# Altium integrated library Altium_Antenna.IntLib: 26 symbols
Pins are listed as number, name and electrical type; pins without a type are passive.

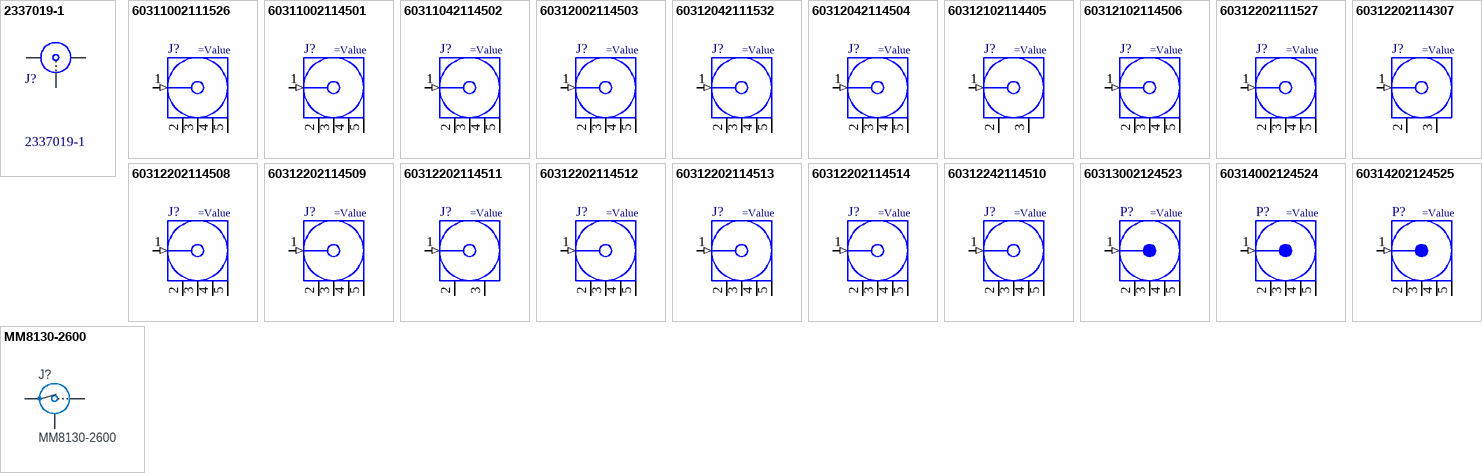
[diagram p0: symbols 2337019-1 to MM8130-2600]

## 2337019-1
designator J?
RF Connectors / Coaxial Connectors MicroCoax receptacle UMCC Gen 1; Manufacturer: TE Connectivity; Component Status: Active; Frequency Range: DC~6GHz; Impedance: 50Ohm; Gender: Jack; Orientation Type: Straight; Manufacturer Part Number: 2337019-1; Value: 2337019-1; ComponentLink1URL: https://www.te.com/commerce/DocumentDelivery/DDEController?Action=srchrtrv&DocNm=C-2337019&DocType=Customer+Drawing&DocLang=English&PartCntxt=2337019-1&DocFormat=pdf; ComponentLink1Description: Datasheet; Supplier 1: Mouser; Supplier 2: Digi-Key; Component Class: Connectors; Supplier 1 URL: https://www.mouser.com/ProductDetail/TE-Connectivity/2337019-1?qs=l4Gc20tDgJIuN7nS9rJkJw%3D%3D; Supplier 2 URL: https://www.digikey.com/en/products/detail/te-connectivity-amp-connectors/2337019-1/9974052; Center Contact Diameter: N/A; Connector Type: N/A; Interface: N/A; Packaging: Tray; LCSC Part #: C434807; Mount: SMD/SMT; Operating Temperature Max: + 85 C; Operating Temperature Min: - 40 C; Supplier 1 Part Number: 571-2337019-1; Supplier 2 Part Number: A144746TR-ND; Supplier 3: thegioiic; Supplier 3 Part Number: N/A; Supplier 3 URL: N/A
footprint 2337019-1
pins: 1 IN, 2 Shield, 3 Shield

## 60311002111526
designator J?
WR-SMA Connector, PCB THT Jack, Right Angle; Manufacturer Part Number: 60311002111526; Manufacturer: Wurth Elektronik; Impedance: 50Ohm; Connector Type: SMA; Frequency Range: DC~6GHz; Interface: MIL-STD-348; Center Contact Diameter: 1.27mm; Component Status: Active; ComponentLink1Description: Datasheet; ComponentLink1URL: https://www.we-online.com/catalog/datasheet/60311002111526.pdf; Gender: Jack; Packaging: Tray; Orientation Type: Right Angle; Component Class: Connectors; Supplier 1: Mouser; Supplier 2: Digi-Key; Supplier 1 URL: N/A; Supplier 2 URL: N/A; LCSC Part #: N/A; Mount: THT; Operating Temperature Max: + 85 C; Operating Temperature Min: - 40 C; Supplier 1 Part Number: N/A; Supplier 2 Part Number: N/A; Supplier 3: thegioiic; Supplier 3 Part Number: N/A; Supplier 3 URL: N/A
footprint 60311002111526
pins: 1 Signal (in) "Signal Pin", 2 GND (power), 3 GND (power), 4 GND (power), 5 GND (power)

## 60311002114501
designator J?
WR-SMA Connector, PCB THT Jack, Right Angle, with Anti-Torque Thread; Manufacturer Part Number: 60311002114501; Manufacturer: Wurth Elektronik; Impedance: 50Ohm; Connector Type: SMA; Frequency Range: DC~18GHz; Interface: MIL-STD-348; Center Contact Diameter: 1.27mm; Component Status: Active; ComponentLink1Description: Datasheet; ComponentLink1URL: https://www.we-online.com/catalog/datasheet/60311002114501.pdf; Gender: Jack; Packaging: Tray; Orientation Type: Right Angle; Component Class: Connectors; Supplier 1: Mouser; Supplier 1 URL: https://www.mouser.vn/ProductDetail/Wurth-Elektronik/60311002114501?qs=3jNSNtuqJTKCM9Xl9ihRQg%3D%3D; Supplier 2: Digi-Key; Supplier 2 URL: https://www.digikey.com/en/products/detail/johanson-technology-inc/2450ad18a6050002e/16034408; LCSC Part #: N/A; Mount: THT; Operating Temperature Max: + 85 C; Operating Temperature Min: - 40 C; Supplier 1 Part Number: 710-60311002114501; Supplier 2 Part Number: 732-13833-ND; Supplier 3: thegioiic; Supplier 3 Part Number: N/A; Supplier 3 URL: N/A
footprint 60311002114501
pins: 1 Signal (in) "Signal Pin", 2 GND (power), 3 GND (power), 4 GND (power), 5 GND (power)

## 60311042114502
designator J?
WR-SMA Connector, PCB THT Jack, Right Angle, Rear Mount Bulkhead; Manufacturer Part Number: 60311042114502; Manufacturer: Wurth Elektronik; Impedance: 50Ohm; Connector Type: SMA; Frequency Range: DC~12.4GHz; Interface: MIL-STD-348; Center Contact Diameter: 1.27mm; Component Status: Active; ComponentLink1Description: Datasheet; ComponentLink1URL: https://www.we-online.com/catalog/datasheet/60311042114502.pdf; Gender: Jack; Packaging: Tray; Orientation Type: Right Angle; Component Class: Connectors; Supplier 1: Mouser; Supplier 1 URL: https://www.mouser.vn/ProductDetail/Wurth-Elektronik/60311042114502?qs=3jNSNtuqJTKkU1QzLc%2FggQ%3D%3D; Supplier 2: Digi-Key; Supplier 2 URL: https://www.digikey.com/en/products/detail/w%C3%BCrth-elektronik/60311042114502/10106988; LCSC Part #: N/A; Mount: THT; Operating Temperature Max: + 85 C; Operating Temperature Min: - 40 C; Supplier 1 Part Number: 710-60311042114502; Supplier 2 Part Number: 732-13834-ND; Supplier 3: thegioiic; Supplier 3 Part Number: N/A; Supplier 3 URL: N/A
footprint 60311042114502
pins: 1 Signal (in) "Signal Pin", 2 GND (power), 3 GND (power), 4 GND (power), 5 GND (power)

## 60312002114503
designator J?
WR-SMA Connector, PCB THT Jack, Straight; Manufacturer Part Number: 60312002114503; Manufacturer: Wurth Elektronik; Impedance: 50Ohm; Connector Type: SMA; Frequency Range: DC~18GHz; Interface: MIL-STD-348; Center Contact Diameter: 1.27mm; Component Status: Active; ComponentLink1Description: Datasheet; ComponentLink1URL: https://www.we-online.com/catalog/datasheet/60312002114503.pdf; Gender: Jack; Packaging: Tray; Orientation Type: Straight; Component Class: Connectors; Supplier 1: Mouser; Supplier 1 URL: https://www.mouser.vn/ProductDetail/Wurth-Elektronik/60312002114503?qs=3jNSNtuqJTL%2FGpZA1FAOxw%3D%3D; Supplier 2: Digi-Key; Supplier 2 URL: https://www.digikey.com/en/products/detail/w%C3%BCrth-elektronik/60312002114503/10106989; LCSC Part #: N/A; Mount: THT; Operating Temperature Max: + 85 C; Operating Temperature Min: - 40 C; Supplier 1 Part Number: 710-60312002114503; Supplier 2 Part Number: 732-13835-ND; Supplier 3: thegioiic; Supplier 3 Part Number: N/A; Supplier 3 URL: N/A
footprint 60312002114503
pins: 1 Signal (in) "Signal Pin", 2 GND (power), 3 GND (power), 4 GND (power), 5 GND (power)

## 60312042111532
designator J?
WR-SMA Connector, PCB THT Jack, Straight, Rear Mount Bulkhead 11mm; Manufacturer Part Number: 60312042111532; Manufacturer: Wurth Elektronik; Impedance: 50Ohm; Connector Type: SMA; Frequency Range: DC~6GHz; Interface: MIL-STD-348; Center Contact Diameter: 1.27mm; Component Status: Active; ComponentLink1Description: Datasheet; ComponentLink1URL: https://www.we-online.com/catalog/datasheet/60312042111532.pdf; Gender: Jack; Packaging: Tray; Orientation Type: Straight; Component Class: Connectors; Supplier 1: Mouser; Supplier 1 URL: https://www.mouser.vn/ProductDetail/Wurth-Elektronik/60312042111532?qs=sPbYRqrBIVm%2Fn3Wj9RlOYA%3D%3D; Supplier 2: Digi-Key; Supplier 2 URL: https://www.digikey.com/en/products/detail/w%C3%BCrth-elektronik/60312042111532/12726543; LCSC Part #: N/A; Mount: THT; Operating Temperature Max: + 85 C; Operating Temperature Min: - 40 C; Supplier 1 Part Number: 710-60312042111532; Supplier 2 Part Number: 732-60312042111532-ND; Supplier 3: thegioiic; Supplier 3 Part Number: N/A; Supplier 3 URL: N/A
footprint 60312042111532 (Footprint not found)
pins: 1 Signal (in) "Signal Pin", 2 GND (power), 3 GND (power), 4 GND (power), 5 GND (power)

## 60312042114504
designator J?
WR-SMA Connector, PCB THT Jack, Straight, Rear Mount Bulkhead; Manufacturer Part Number: 60312042114504; Manufacturer: Wurth Elektronik; Impedance: 50Ohm; Connector Type: SMA; Frequency Range: DC~18GHz; Interface: MIL-STD-348; Center Contact Diameter: 1.27mm; Component Status: Active; ComponentLink1Description: Datasheet; ComponentLink1URL: https://www.we-online.com/catalog/datasheet/60312042114504.pdf; Gender: Jack; Packaging: Tray; Orientation Type: Straight; Component Class: Connectors; Supplier 1: Mouser; Supplier 1 URL: https://www.mouser.vn/ProductDetail/Wurth-Elektronik/60312042114504?qs=3jNSNtuqJTJQUrgN5kAX4g%3D%3D; Supplier 2: Digi-Key; Supplier 2 URL: https://www.digikey.com/en/products/detail/w%C3%BCrth-elektronik/60312042114504/10106990; LCSC Part #: N/A; Mount: THT; Operating Temperature Max: + 85 C; Operating Temperature Min: - 40 C; Supplier 1 Part Number: 710-60312042114504; Supplier 2 Part Number: 732-13836-ND; Supplier 3: thegioiic; Supplier 3 Part Number: N/A; Supplier 3 URL: N/A
footprint 60312042114504
pins: 1 Signal (in) "Signal Pin", 2 GND (power), 3 GND (power), 4 GND (power), 5 GND (power)

## 60312102114405
designator J?
WR-SMA Connector, PCB SMT Jack, Straight; Manufacturer Part Number: 60312102114405; Manufacturer: Wurth Elektronik; Impedance: 50Ohm; Connector Type: SMA; Frequency Range: DC~18GHz; Interface: MIL-STD-348; Center Contact Diameter: 1.27mm; Component Status: Active; ComponentLink1Description: Datasheet; ComponentLink1URL: https://www.we-online.com/catalog/datasheet/60312102114405.pdf; Gender: Jack; Packaging: Tape and Reel; Orientation Type: Straight; Component Class: Connectors; Supplier 1: Mouser; Supplier 1 URL: https://www.mouser.vn/ProductDetail/Wurth-Elektronik/60312102114405?qs=3jNSNtuqJTIiYSFyz6jY1Q%3D%3D; Supplier 2: Digi-Key; Supplier 2 URL: https://www.digikey.com/en/products/detail/w%C3%BCrth-elektronik/60312102114405/10106991; LCSC Part #: N/A; Mount: SMD/SMT; Operating Temperature Max: + 85 C; Operating Temperature Min: - 40 C; Supplier 1 Part Number: 710-60312102114405; Supplier 2 Part Number: 732-13837-2-ND; Supplier 3: thegioiic; Supplier 3 Part Number: N/A; Supplier 3 URL: N/A
footprint 60312102114405
pins: 1 Signal (in) "Signal Pin", 2 GND (power), 3 GND (power)

## 60312102114506
designator J?
WR-SMA Connector, PCB THR Jack, Straight; Manufacturer Part Number: 60312102114506; Manufacturer: Wurth Elektronik; Impedance: 50Ohm; Connector Type: SMA; Frequency Range: DC~18GHz; Interface: MIL-STD-348; Center Contact Diameter: 1.27mm; Component Status: Active; ComponentLink1Description: Datasheet; ComponentLink1URL: https://www.we-online.com/catalog/datasheet/60312102114506.pdf; Gender: Jack; Packaging: Tray; Orientation Type: Straight; Component Class: Connectors; Supplier 1: Mouser; Supplier 1 URL: https://www.mouser.vn/ProductDetail/Wurth-Elektronik/60312102114506?qs=3jNSNtuqJTLU48W1WhewmQ%3D%3D; Supplier 2: Digi-Key; Supplier 2 URL: https://www.digikey.com/en/products/detail/w%C3%BCrth-elektronik/60312102114506/10106992; LCSC Part #: N/A; Mount: THR; Operating Temperature Max: + 85 C; Operating Temperature Min: - 40 C; Supplier 1 Part Number: 710-60312102114506; Supplier 2 Part Number: 732-13838-ND; Supplier 3: thegioiic; Supplier 3 Part Number: N/A; Supplier 3 URL: N/A
footprint 60312102114506
pins: 1 Signal (in) "Signal Pin", 2 GND (power), 3 GND (power), 4 GND (power), 5 GND (power)

## 60312202111527
designator J?
WR-SMA Connector, PCB End Launch Jack, Straight, 6.35SQ Flange Round Post for PCB 1.6mm; Manufacturer Part Number: 60312202111527; Manufacturer: Wurth Elektronik; Impedance: 50Ohm; Connector Type: SMA; Frequency Range: DC~18GHz; Interface: MIL-STD-348; Center Contact Diameter: 0.76mm; Component Status: Active; ComponentLink1Description: Datasheet; ComponentLink1URL: https://www.we-online.com/catalog/datasheet/60312202111527.pdf; Gender: Jack; Packaging: Tray; Orientation Type: Straight; Component Class: Connectors; Supplier 1: Mouser; Supplier 1 URL: N/A; Supplier 2: Digi-Key; Supplier 2 URL: N/A; LCSC Part #: N/A; Mount: End Launch; Operating Temperature Max: + 85 C; Operating Temperature Min: - 40 C; Supplier 1 Part Number: N/A; Supplier 2 Part Number: N/A; Supplier 3: thegioiic; Supplier 3 Part Number: N/A; Supplier 3 URL: N/A
footprint 60312202111527
pins: 1 Signal (in) "Signal Pin", 2 GND (power), 3 GND (power), 4 GND (power), 5 GND (power)

## 60312202114307
designator J?
WR-SMA Connector, PCB End Launch Jack, Straight, Edge Card for PCB 1.6mm Max.; Manufacturer Part Number: 60312202114307; Manufacturer: Wurth Elektronik; Impedance: 50Ohm; Connector Type: SMA; Frequency Range: DC~18GHz; Interface: MIL-STD-348; Center Contact Diameter: 0.76mm; Component Status: Active; ComponentLink1Description: Datasheet; ComponentLink1URL: https://www.we-online.com/catalog/datasheet/60312202114307.pdf; Gender: Jack; Packaging: Tape and Reel; Orientation Type: Straight; Component Class: Connectors; Supplier 1: Mouser; Supplier 1 URL: https://www.mouser.vn/ProductDetail/Wurth-Elektronik/60312202114307?qs=3jNSNtuqJTLA%252Byi%2FUsRU8Q%3D%3D; Supplier 2: Digi-Key; Supplier 2 URL: https://www.digikey.com/en/products/detail/w%C3%BCrth-elektronik/60312202114307/10106993; LCSC Part #: N/A; Mount: End Launch; Operating Temperature Max: + 85 C; Operating Temperature Min: - 40 C; Supplier 1 Part Number: 710-60312202114307; Supplier 2 Part Number: 732-13839-2-ND; Supplier 3: thegioiic; Supplier 3 Part Number: N/A; Supplier 3 URL: N/A
footprint 60312202114307
pins: 1 Signal (in) "Signal Pin", 2 GND (power), 3 GND (power)

## 60312202114508
designator J?
WR-SMA Connector, PCB End Launch Jack, Straight, 6.35SQ Flange Round Post for PCB 1.1mm; Manufacturer Part Number: 60312202114508; Manufacturer: Wurth Elektronik; Impedance: 50Ohm; Connector Type: SMA; Frequency Range: DC~18GHz; Interface: MIL-STD-348; Center Contact Diameter: 0.76mm; Component Status: Active; ComponentLink1Description: Datasheet; ComponentLink1URL: https://www.we-online.com/catalog/datasheet/60312202114508.pdf; Gender: Jack; Packaging: Tray; Orientation Type: Straight; Component Class: Connectors; Supplier 1: Mouser; Supplier 1 URL: https://www.mouser.vn/ProductDetail/Wurth-Elektronik/60312202114508?qs=3jNSNtuqJTKmTRvdRk2WHQ%3D%3D; Supplier 2: Digi-Key; Supplier 2 URL: https://www.digikey.com/en/products/detail/w%C3%BCrth-elektronik/60312202114508/10106994; LCSC Part #: N/A; Mount: End Launch; Operating Temperature Max: + 85 C; Operating Temperature Min: - 40 C; Supplier 1 Part Number: 710-60312202114508; Supplier 2 Part Number: 732-13840-ND; Supplier 3: thegioiic; Supplier 3 Part Number: N/A; Supplier 3 URL: N/A
footprint 60312202114508
pins: 1 Signal (in) "Signal Pin", 2 GND (power), 3 GND (power), 4 GND (power), 5 GND (power)

## 60312202114509
designator J?
WR-SMA Connector, PCB End Launch Jack, Straight, Round Post for PCB 1.6mm; Manufacturer Part Number: 60312202114509; Manufacturer: Wurth Elektronik; Impedance: 50Ohm; Connector Type: SMA; Frequency Range: DC~18GHz; Interface: MIL-STD-348; Center Contact Diameter: 0.76mm; Component Status: Active; ComponentLink1Description: Datasheet; ComponentLink1URL: https://www.we-online.com/catalog/datasheet/60312202114509.pdf; Gender: Jack; Packaging: Tray; Orientation Type: Straight; Component Class: Connectors; Supplier 1: Mouser; Supplier 1 URL: https://www.mouser.vn/ProductDetail/Wurth-Elektronik/60312202114509?qs=3jNSNtuqJTJz2JWKi7lcpA%3D%3D; Supplier 2: Digi-Key; Supplier 2 URL: https://www.digikey.com/en/products/detail/w%C3%BCrth-elektronik/60312202114509/10106995; LCSC Part #: N/A; Mount: End Launch; Operating Temperature Max: + 85 C; Operating Temperature Min: - 40 C; Supplier 1 Part Number: 710-60312202114509; Supplier 2 Part Number: 732-13841-ND; Supplier 3: thegioiic; Supplier 3 Part Number: N/A; Supplier 3 URL: N/A
footprint 60312202114509
pins: 1 Signal (in) "Signal Pin", 2 GND (power), 3 GND (power), 4 GND (power), 5 GND (power)

## 60312202114511
designator J?
WR-SMA Connector, PCB End Launch Jack, Straight, Flat Tab with THT Grounding Pins for PCB 2.8mm Max.; Manufacturer Part Number: 60312202114511; Manufacturer: Wurth Elektronik; Impedance: 50Ohm; Connector Type: SMA; Frequency Range: DC~18GHz; Interface: MIL-STD-348; Center Contact Diameter: 0.51 WIDE x 0.25 THK; Component Status: Active; ComponentLink1Description: Datasheet; ComponentLink1URL: https://www.we-online.com/catalog/datasheet/60312202114511.pdf; Gender: Jack; Packaging: Tray; Orientation Type: Straight; Component Class: Connectors; Supplier 1: Mouser; Supplier 1 URL: https://www.mouser.vn/ProductDetail/Wurth-Elektronik/60312202114511?qs=3jNSNtuqJTLKiSO7iJqkqg%3D%3D; Supplier 2: Digi-Key; Supplier 2 URL: https://www.digikey.com/en/products/detail/w%C3%BCrth-elektronik/60312202114511/10106996; LCSC Part #: N/A; Mount: End Launch; Operating Temperature Max: + 85 C; Operating Temperature Min: - 40 C; Supplier 1 Part Number: 710-60312202114511; Supplier 2 Part Number: 732-13842-ND; Supplier 3: thegioiic; Supplier 3 Part Number: N/A; Supplier 3 URL: N/A
footprint 60312202114511
pins: 1 Signal (in) "Signal Pin", 2 GND (power), 3 GND (power)

## 60312202114512
designator J?
WR-SMA Connector, PCB End Launch Jack, Straight, Flat Tab for 1.1mm; Manufacturer Part Number: 60312202114512; Manufacturer: Wurth Elektronik; Impedance: 50Ohm; Connector Type: SMA; Frequency Range: DC~18GHz; Interface: MIL-STD-348; Center Contact Diameter: 0.51 WIDE x 0.25 THK; Component Status: Active; ComponentLink1Description: Datasheet; ComponentLink1URL: https://www.we-online.com/catalog/datasheet/60312202114512.pdf; Gender: Jack; Packaging: Tray; Orientation Type: Straight; Component Class: Connectors; Supplier 1: Mouser; Supplier 1 URL: https://www.mouser.vn/ProductDetail/Wurth-Elektronik/60312202114512?qs=3jNSNtuqJTLnrLNuFy3roA%3D%3D; Supplier 2: Digi-Key; Supplier 2 URL: https://www.digikey.com/en/products/detail/w%C3%BCrth-elektronik/60312202114512/10106997; LCSC Part #: N/A; Mount: End Launch; Operating Temperature Max: + 85 C; Operating Temperature Min: - 40 C; Supplier 1 Part Number: 710-60312202114512; Supplier 2 Part Number: 732-13843-ND; Supplier 3: thegioiic; Supplier 3 Part Number: N/A; Supplier 3 URL: N/A
footprint 60312202114512
pins: 1 Signal (in) "Signal Pin", 2 GND (power), 3 GND (power), 4 GND (power), 5 GND (power)

## 60312202114513
designator J?
WR-SMA Connector, PCB End Launch Jack, Straight, 6.35SQ Flange Flat Tab 1.6mm; Manufacturer Part Number: 60312202114513; Manufacturer: Wurth Elektronik; Impedance: 50Ohm; Connector Type: SMA; Frequency Range: DC~18GHz; Interface: MIL-STD-348; Center Contact Diameter: 0.51 WIDE x 0.25 THK; Component Status: Active; ComponentLink1Description: Datasheet; ComponentLink1URL: https://www.we-online.com/catalog/datasheet/60312202114513.pdf; Gender: Jack; Packaging: Tray; Orientation Type: Straight; Component Class: Connectors; Supplier 1: Mouser; Supplier 1 URL: https://www.mouser.vn/ProductDetail/Wurth-Elektronik/60312202114513?qs=3jNSNtuqJTItJ50L1VXaVQ%3D%3D; Supplier 2: Digi-Key; Supplier 2 URL: https://www.digikey.com/en/products/detail/w%C3%BCrth-elektronik/60312202114513/10106998; LCSC Part #: N/A; Mount: End Launch; Operating Temperature Max: + 85 C; Operating Temperature Min: - 40 C; Supplier 1 Part Number: 710-60312202114513; Supplier 2 Part Number: 732-13844-ND; Supplier 3: thegioiic; Supplier 3 Part Number: N/A; Supplier 3 URL: N/A
footprint 60312202114513
pins: 1 Signal (in) "Signal Pin", 2 GND (power), 3 GND (power), 4 GND (power), 5 GND (power)

## 60312202114514
designator J?
WR-SMA Connector, PCB End Launch Jack, Straight, Flat Tab for PCB 1.6mm; Manufacturer Part Number: 60312202114514; Manufacturer: Wurth Elektronik; Impedance: 50Ohm; Connector Type: SMA; Frequency Range: DC~18GHz; Interface: MIL-STD-348; Center Contact Diameter: 0.51 WIDE x 0.25 THK; Component Status: Active; ComponentLink1Description: Datasheet; ComponentLink1URL: https://www.we-online.com/catalog/datasheet/60312202114514.pdf; Gender: Jack; Packaging: Tray; Orientation Type: Straight; Component Class: Connectors; Supplier 1: Mouser; Supplier 1 URL: https://www.mouser.vn/ProductDetail/Wurth-Elektronik/60312202114514?qs=3jNSNtuqJTJHxrd7h6%252BqaQ%3D%3D; Supplier 2: Digi-Key; Supplier 2 URL: https://www.digikey.com/en/products/detail/w%C3%BCrth-elektronik/60312202114514/10106999; LCSC Part #: N/A; Mount: End Launch; Operating Temperature Max: + 85 C; Operating Temperature Min: - 40 C; Supplier 1 Part Number: 710-60312202114514; Supplier 2 Part Number: 732-13845-ND; Supplier 3: thegioiic; Supplier 3 Part Number: N/A; Supplier 3 URL: N/A
footprint 60312202114514
pins: 1 Signal (in) "Signal Pin", 2 GND (power), 3 GND (power), 4 GND (power), 5 GND (power)

## 60312242114510
designator J?
WR-SMA Connector, PCB End Launch Jack, Straight, Round Post Rear Mount Bulkhead for PCB 1.6mm; Manufacturer Part Number: 60312242114510; Manufacturer: Wurth Elektronik; Impedance: 50Ohm; Connector Type: SMA; Frequency Range: DC~18GHz; Interface: MIL-STD-348; Center Contact Diameter: 0.76mm; Component Status: Active; ComponentLink1Description: Datasheet; ComponentLink1URL: https://www.we-online.com/catalog/datasheet/60312242114510.pdf; Gender: Jack; Packaging: Tray; Orientation Type: Straight; Component Class: Connectors; Supplier 1: Mouser; Supplier 1 URL: https://www.mouser.vn/ProductDetail/Wurth-Elektronik/60312242114510?qs=3jNSNtuqJTJ1FXKuzi%2FwCw%3D%3D; Supplier 2: Digi-Key; Supplier 2 URL: https://www.digikey.com/en/products/detail/w%C3%BCrth-elektronik/60312242114510/10107000; LCSC Part #: N/A; Mount: End Launch; Operating Temperature Max: + 85 C; Operating Temperature Min: - 40 C; Supplier 1 Part Number: 710-60312242114510; Supplier 2 Part Number: 732-13846-ND; Supplier 3: thegioiic; Supplier 3 Part Number: N/A; Supplier 3 URL: N/A
footprint 60312242114510
pins: 1 Signal (in) "Signal Pin", 2 GND (power), 3 GND (power), 4 GND (power), 5 GND (power)

## 60313002124523
designator P?
WR-SMA Connector, PCB THT Plug, Right Angle; Manufacturer Part Number: 60313002124523; Manufacturer: Wurth Elektronik; Impedance: 50Ohm; Connector Type: SMA; Frequency Range: DC~18GHz; Interface: MIL-STD-348; Center Contact Diameter: 1.27mm; Component Status: Active; ComponentLink1Description: Datasheet; ComponentLink1URL: https://www.we-online.com/catalog/datasheet/60313002124523.pdf; Gender: Plug; Packaging: Tray; Orientation Type: Right Angle; Component Class: Connectors; Supplier 1: Mouser; Supplier 1 URL: https://www.mouser.vn/ProductDetail/Wurth-Elektronik/60313002124523?qs=3jNSNtuqJTINgPMS4eFlrw%3D%3D; Supplier 2: Digi-Key; Supplier 2 URL: https://www.digikey.com/en/products/detail/w%C3%BCrth-elektronik/60313002124523/10107009; LCSC Part #: N/A; Mount: THT; Operating Temperature Max: + 85 C; Operating Temperature Min: - 40 C; Supplier 1 Part Number: 710-60313002124523; Supplier 2 Part Number: 732-13855-ND; Supplier 3: thegioiic; Supplier 3 Part Number: N/A; Supplier 3 URL: N/A
footprint 60313002124523
pins: 1 Signal (in) "Signal Pin", 2 GND (power), 3 GND (power), 4 GND (power), 5 GND (power)

## 60314002124524
designator P?
WR-SMA Connector, PCB THT Plug, Straight; Manufacturer Part Number: 60314002124524; Manufacturer: Wurth Elektronik; Impedance: 50Ohm; Connector Type: SMA; Frequency Range: DC~18GHz; Interface: MIL-STD-348; Center Contact Diameter: 1.27mm; Component Status: Active; ComponentLink1Description: Datasheet; ComponentLink1URL: https://www.we-online.com/catalog/datasheet/60314002124524.pdf; Gender: Plug; Packaging: Tray; Orientation Type: Straight; Component Class: Connectors; Supplier 1: Mouser; Supplier 1 URL: https://www.mouser.vn/ProductDetail/Wurth-Elektronik/60314002124524?qs=3jNSNtuqJTK4rqBFL0m6Ig%3D%3D; Supplier 2: Digi-Key; Supplier 2 URL: https://www.digikey.com/en/products/detail/w%C3%BCrth-elektronik/60314002124524/10107010; LCSC Part #: N/A; Mount: THT; Operating Temperature Max: + 85 C; Operating Temperature Min: - 40 C; Supplier 1 Part Number: 710-60314002124524; Supplier 2 Part Number: 732-13856-ND; Supplier 3: thegioiic; Supplier 3 Part Number: N/A; Supplier 3 URL: N/A
footprint 60314002124524
pins: 1 Signal (in) "Signal Pin", 2 GND (power), 3 GND (power), 4 GND (power), 5 GND (power)

## 60314202124525
designator P?
WR-SMA Connector, PCB End Launch Plug, Straight, Round Post for PCB 1.6mm; Manufacturer Part Number: 60314202124525; Manufacturer: Wurth Elektronik; Impedance: 50Ohm; Connector Type: SMA; Frequency Range: DC~18GHz; Interface: MIL-STD-348; Center Contact Diameter: 0.76mm; Component Status: Active; ComponentLink1Description: Datasheet; ComponentLink1URL: https://www.we-online.com/catalog/datasheet/60314202124525.pdf; Gender: Plug; Packaging: Tray; Orientation Type: Straight; Component Class: Connectors; Supplier 1: Mouser; Supplier 1 URL: https://www.mouser.vn/ProductDetail/Wurth-Elektronik/60314202124525?qs=3jNSNtuqJTJbZgZs6irRew%3D%3D; Supplier 2: Digi-Key; Supplier 2 URL: https://www.digikey.com/en/products/detail/w%C3%BCrth-elektronik/60314202124525/10107011; LCSC Part #: N/A; Mount: End Launch; Operating Temperature Max: + 85 C; Operating Temperature Min: - 40 C; Supplier 1 Part Number: 710-60314202124525; Supplier 2 Part Number: 732-13857-ND; Supplier 3: thegioiic; Supplier 3 Part Number: N/A; Supplier 3 URL: N/A
footprint 60314202124525
pins: 1 Signal (in) "Signal Pin", 2 GND (power), 3 GND (power), 4 GND (power), 5 GND (power)

## MM8130-2600
designator J?
Coaxial Connector with Switch; Manufacturer: Murata; Component Status: Active; Frequency Range: DC~6GHz; Impedance: 50Ohm; Manufacturer Part Number: MM8130-2600; Value: MM8130-2600; ComponentLink1URL: N/A; ComponentLink1Description: Datasheet; Supplier 1: Mouser; Supplier 2: Digi-Key; Component Class: Connectors; Supplier 1 URL: https://www.mouser.vn/ProductDetail/Murata-Electronics/MM8130-2600RA2?qs=pwh76yelNxAj%2FSz0%2FLo03A%3D%3D; Supplier 2 URL: https://www.digikey.com/en/products/detail/murata-electronics/mm8130-2600rb8/3863191; Center Contact Diameter: N/A; Connector Type: N/A; Gender: N/A; Interface: N/A; Orientation Type: N/A; Packaging: N/A; LCSC Part #: N/A; Mount: SMD/SMT; Operating Temperature Max: + 85 C; Operating Temperature Min: - 40 C; Supplier 1 Part Number: 81-MM8130-2600RA2; Supplier 2 Part Number: 490-8450-2-ND; Supplier 3: thegioiic; Supplier 3 Part Number: N/A; Supplier 3 URL: N/A
footprint COAXIAL-SWF
pins: 1 IN, 2 Shield, 3 OUT


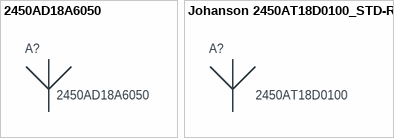
[diagram p1: symbols 2450AD18A6050 to Johanson 2450AT18D0100_STD-R]

## 2450AD18A6050
designator A?
2.4, 5, and 6GHz BT/WiFi6E Mini Antenna, Single-feed, Tri-band, Corner Mount; Manufacturer: Johanson Technology; Pad Count: 2; Part Number: 2450AD18A6050; Author: hany; Manufacturer Part Number: 2450AD18A6050; ComponentLink1URL: https://www.johansontechnology.com/datasheets/2450AD18A6050/2450AD18A6050.pdf; ComponentLink1Description: Datasheet; Value: 2450AD18A6050; Supplier 1: Mouser; Supplier 2: Digi-Key; Supplier 1 URL: N/A; Supplier 2 URL: N/A; LCSC Part #: N/A; Mount: SMD/SMT; Operating Temperature Max: + 155 C; Operating Temperature Min: - 55 C; Supplier 1 Part Number: N/A; Supplier 2 Part Number: N/A; Supplier 3: thegioiic; Supplier 3 Part Number: N/A; Supplier 3 URL: N/A
footprint 2450AD18A6050
pins: 1

## Johanson 2450AT18D0100_STD-R
designator A?, comment 2450AT18D0100
2.45 GHz chip antenna; Part Number: Johanson 2450AT18D0100_STD-R; Manufacturer: Johanson Technology; Pad Count: 4; Author: rsk; Manufacturer Part Number: 2450AT18D0100; ComponentLink1URL: N/A; ComponentLink1Description: Datasheet; Value: 2450AT18D0100; Supplier 1: Mouser; Supplier 2: Digi-Key; Supplier 1 URL: N/A; LCSC Part #: N/A; Mount: SMD/SMT; Operating Temperature Max: + 155 C; Operating Temperature Min: - 55 C; Supplier 1 Part Number: N/A; Supplier 2 Part Number: N/A; Supplier 2 URL: N/A; Supplier 3: thegioiic; Supplier 3 Part Number: N/A; Supplier 3 URL: N/A
footprint 2450AT18D0100_STD-R
pins: 1, 2 GND (power) hidden to GND


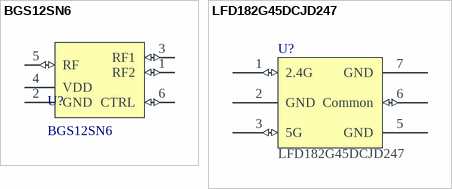
[diagram p2: symbols BGS12SN6 to LFD182G45DCJD247]

## BGS12SN6
designator U?
Wideband SPDT RF Switch, 50MHz-6GHz. Max 30dBm, 1.8-3.5V; Manufacturer: Infineon Technologies; Manufacturer Part Number: BGS12SN6E6327XTSA1; Pad Count: 6; ComponentLink1Description: Datasheet; ComponentLink1URL: https://no.mouser.com/datasheet/2/196/Infineon-BGS12SN6-DS-v02_03-EN-1226027.pdf; Value: BGS12SN6; LCSC Part #: N/A; Mount: SMD/SMT; Operating Temperature Max: + 155 C; Operating Temperature Min: - 55 C; Package / Case: TSNP-6-8; Packaging: Tape and Reel; Supplier 1: Mouser; Supplier 1 Part Number: 726-BGS12SN6E6327XTS; Supplier 1 URL: N/A; Supplier 2: Digi-Key; Supplier 2 Part Number: N/A; Supplier 2 URL: N/A; Supplier 3: thegioiic; Supplier 3 Part Number: N/A; Supplier 3 URL: N/A
footprint TSNP-6-8
pins: 1 RF2 (io), 2 GND (power), 3 RF1 (io), 4 VDD (power), 5 RF (io), 6 CTRL (io)

## LFD182G45DCJD247
designator U?
Signal Conditioning 2.4GHz and 5GHz Diplexer; Manufacturer: Murata; Pad Count: 6; Author: hany; Manufacturer Part Number: LFD182G45DCJD247; ComponentLink1URL: https://no.mouser.com/datasheet/2/281/1/LFD182G45DCJD247-2399435.pdf; ComponentLink1Description: Datasheet; LCSC Part #: N/A; Mount: SMD/SMT; Operating Temperature Max: + 155 C; Operating Temperature Min: - 55 C; Package / Case: CAF; Packaging: Tape and Reel; Supplier 1: Mouser; Supplier 1 Part Number: 81-LFD182G45DCJD247; Supplier 1 URL: N/A; Supplier 2: Digi-Key; Supplier 2 Part Number: N/A; Supplier 2 URL: N/A; Supplier 3: thegioiic; Supplier 3 Part Number: N/A; Supplier 3 URL: N/A; Value: LFD182G45DCJD247
footprint CAF-50P160X80-6N
pins: 1 2.4G (io), 2 GND (power), 3 5G (io), 5 GND (power), 6 Common (io), 7 GND (power)